# Altium footprint library ov_ftdi.PcbLib: 34 footprints (part 2 of 3)
Each footprint in its own frame and in the unit in brackets; x right, y up, seen from the top. Pads: shape width x height; smd on the part's side, far side on the other; paste and mask are expansions set on the pad; w line width, h text height; cw(c..) or ccw(c..) is an arc to the next point about the centre after c.
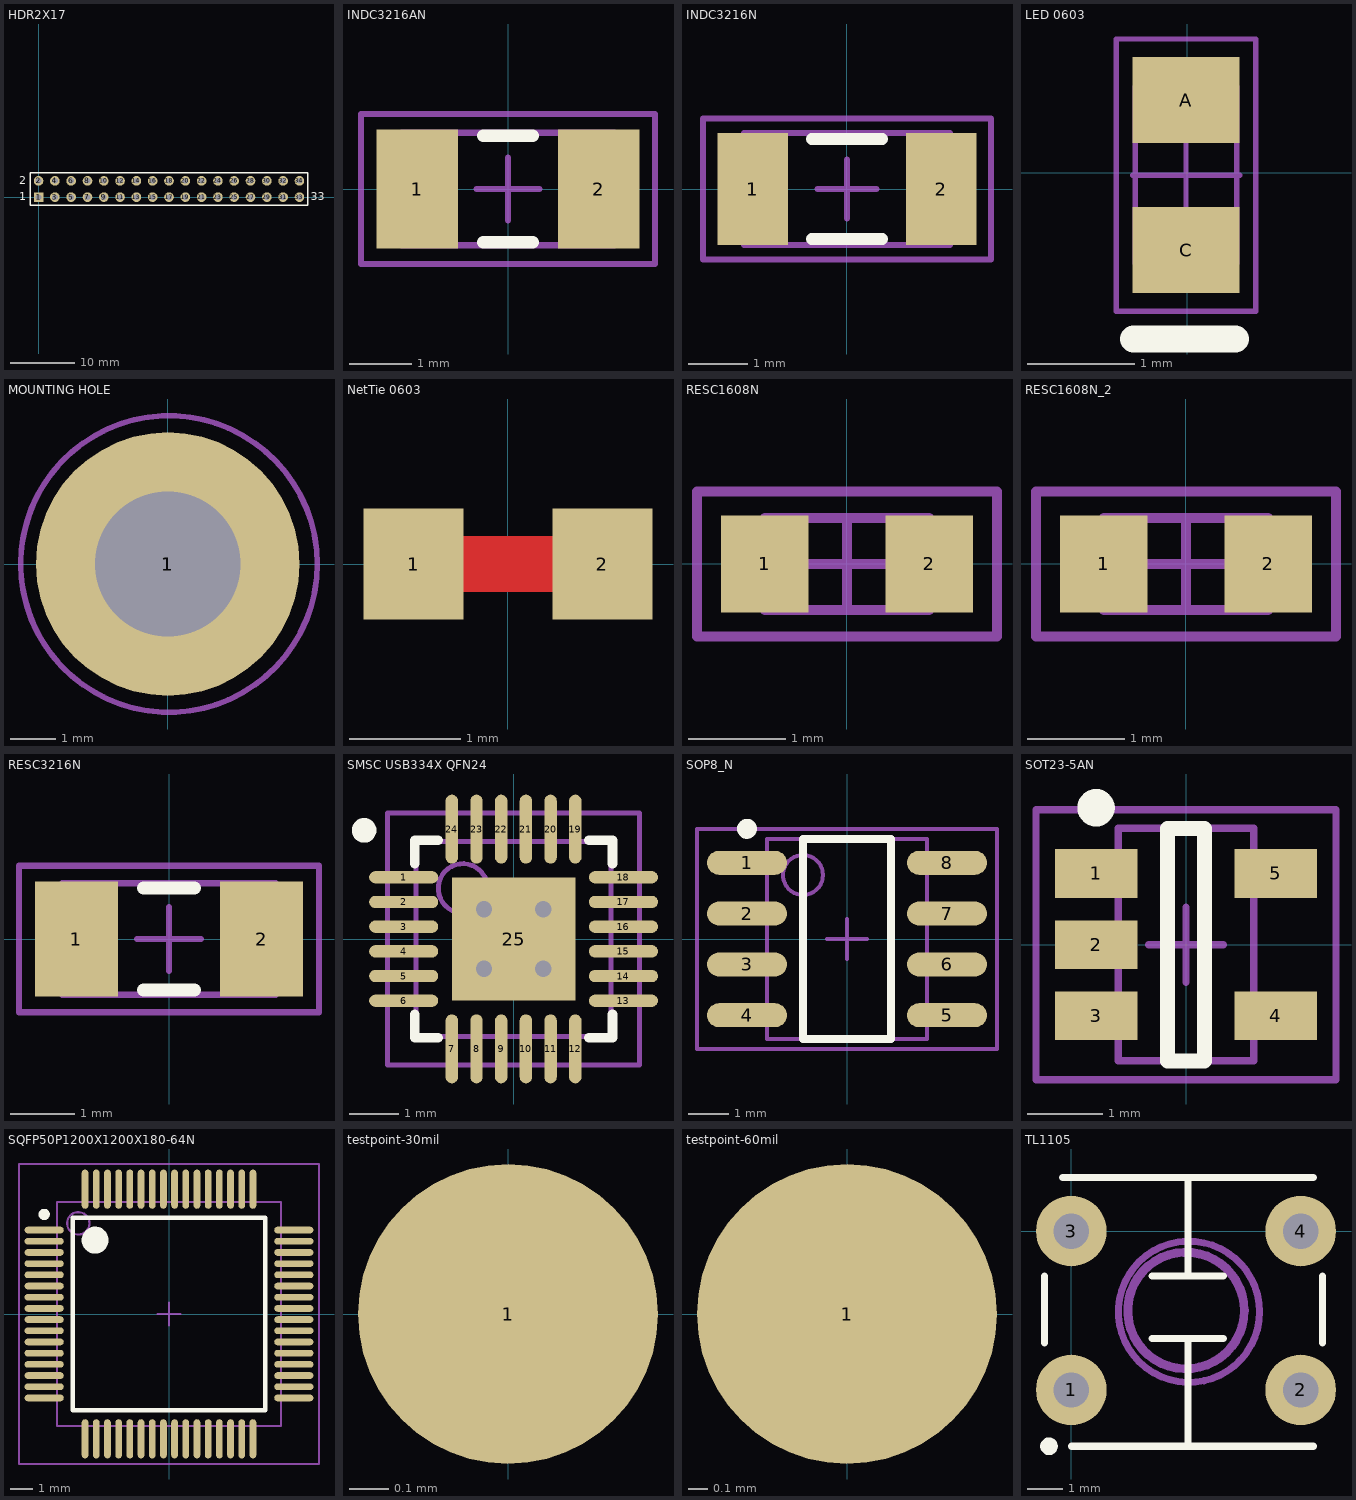
[diagram p1: the footprints below, top view; thin cyan lines are the x and y axes]

## HDR2X17 [mm]
pads (34):
  rect 1.5x1.5 hole 0.9: 1(0,0)
  round 1.5 hole 0.9: 2(0,2.54) 3(2.54,0) 4(2.54,2.54) 5(5.08,0) 6(5.08,2.54) 7(7.62,0) 8(7.62,2.54) 9(10.16,0) 10(10.16,2.54) 11(12.7,0) 12(12.7,2.54) 13(15.24,0) 14(15.24,2.54) 15(17.78,0) 16(17.78,2.54) 17(20.32,0) 18(20.32,2.54) 19(22.86,0) 20(22.86,2.54) 21(25.4,0) 22(25.4,2.54) 23(27.94,0) 24(27.94,2.54) 25(30.48,0) 26(30.48,2.54) 27(33.02,0) 28(33.02,2.54) 29(35.56,0) 30(35.56,2.54) 31(38.1,0) 32(38.1,2.54) 33(40.64,0) 34(40.64,2.54)
Top Overlay:
  lines w0.2: -1.27,-1.27 -1.27,3.81 41.91,3.81 41.91,-1.27 -1.27,-1.27
  text "2" at -3.048,2.032 h1.27
  text "1" at -3.048,-0.508 h1.27
  text "33" at 42.418,-0.508 h1.27

## INDC3216AN [mm]
pads (2):
  rect 1.3x1.9 smd: 1(-1.45,0) 2(1.45,0)
Top Overlay:
  lines w0.2: -0.4,-0.85 0.4,-0.85 ; -0.4,0.85 0.4,0.85
Mechanical 13:
  lines w0.1: -1.7,-0.9 1.7,-0.9 1.7,0.9 -1.7,0.9 -1.7,-0.9
Mechanical 15:
  lines w0.1: -0.5,0 0.5,0 ; 0,-0.5 0,0.5 ; -2.35,-1.2 2.35,-1.2 2.35,1.2 -2.35,1.2 -2.35,-1.2
3D body: height 1.3, standoff 0, extent -1.7,-0.9 1.7,0.9

## INDC3216N [mm]
pads (2):
  rect 1.2x1.9 smd: 1(-1.6,0) 2(1.6,0)
Top Overlay:
  lines w0.2: -0.6,-0.85 0.6,-0.85 ; -0.6,0.85 0.6,0.85
Mechanical 13:
  lines w0.1: -1.75,-0.95 -1.75,0.95 1.75,0.95 1.75,-0.95 -1.75,-0.95
Mechanical 15:
  lines w0.1: -0.5,0 0.5,0 ; 0,-0.5 0,0.5 ; -2.45,-1.2 -2.45,1.2 2.45,1.2 2.45,-1.2 -2.45,-1.2
3D body: height 1.9, standoff 0, extent -1.75,-0.95 1.75,0.95

## LED 0603 [mm]
pads (2):
  rect 1x0.8 smd: A(-0.01,0.68) C(-0.01,-0.72)
Top Overlay:
  lines w0.254: -0.5,-1.55 0.45,-1.55
Mechanical 11:
  lines w0.005: -0.485,-0.845 0.465,-0.845 0.465,0.805 -0.485,0.805 -0.485,-0.02 -0.485,-0.845
Mechanical 13:
  lines w0.05: -0.485,-0.845 -0.485,-0.02 -0.485,0.805 0.465,0.805 0.465,-0.845 -0.485,-0.845
Mechanical 15:
  lines w0.05: -0.51,-0.02 -0.01,-0.02 ; -0.01,-0.52 -0.01,-0.02 ; -0.01,0.48 -0.01,-0.02 ; 0.49,-0.02 -0.01,-0.02 ; -0.66,-1.29 -0.66,-0.02 -0.66,1.25 0.64,1.25 0.64,-1.29 -0.66,-1.29
3D body "LED-0603.stp": height 0.71, standoff -0.01, extent -0.391,-0.833 0.396,0.793
3D body: height 0.75, standoff 0, extent -0.38,-0.58 0.39,0.54

## MOUNTING HOLE [mm]
pads (2):
  round 5.8 hole 3.2: 1(0,0)
  round 3.2 on Mech2: 1(0,0)
Mechanical 5:
  circle w0.1: c0.025,0 r3.25
  lines w0.1: -1.975,-0.5 -1.975,0.5 -0.475,0.5 -0.475,2 0.525,2 0.525,0.5 2.025,0.5 2.025,-0.5 0.525,-0.5 0.525,-2 -0.475,-2 -0.475,-0.5 -1.975,-0.5
Mechanical 13:
  circle w0.1: c0.025,0 r3.25
  circle w0.1: c0.025,0 r1.6
Mechanical 14:
  circle w0.1: c0.025,0 r1.6
  circle w0.1: c0.025,0 r3.25
Mechanical 15:
  circle w0.05: c0.025,0 r3.3
  lines w0.05: -0.975,0 1.025,0 ; 0.025,-1 0.025,1
Mechanical 16:
  circle w0.05: c0.025,0 r3.3
3D body: height 0.02, standoff 0, extent -2.975,-2.994 3.001,2.994
3D body "SW3dPS-DIN 967.STEP": height 2.33, standoff -4, extent -3.8,-3.7 3.7,3.8
3D body: height 0.02, standoff 0, extent -2.975,-2.994 3.001,2.994

## NetTie 0603 [mm]
pads (2):
  rect 0.9x1 smd paste-2.54: 1(-0.85,0) 2(0.85,0)
Top Layer:
  lines w0.508: -0.85,0 0.85,0

## RESC1608N [mm]
pads (2):
  rect 0.9x1 smd: 1(-0.85,0) 2(0.85,0)
Mechanical 13:
  lines w0.1: -0.85,-0.475 -0.85,0.475 0.85,0.475 0.85,-0.475 -0.85,-0.475
Mechanical 15:
  lines w0.1: -0.475,0 0.475,0 ; 0,-0.475 0,0.475 ; -1.55,-0.75 -1.55,0.75 1.55,0.75 1.55,-0.75 -1.55,-0.75
3D body: height 0.6, standoff 0, extent -0.85,-0.475 0.85,0.475

## RESC1608N_2 [mm]
pads (2):
  rect 0.9x1 smd: 1(-0.85,0) 2(0.85,0)
Mechanical 13:
  lines w0.1: -0.85,-0.475 0.85,-0.475 0.85,0.475 -0.85,0.475 -0.85,-0.475
Mechanical 15:
  lines w0.1: -0.475,0 0.475,0 ; 0,-0.475 0,0.475 ; -1.55,-0.75 1.55,-0.75 1.55,0.75 -1.55,0.75 -1.55,-0.75
3D body: height 0.6, standoff 0, extent -0.85,-0.475 0.85,0.475

## RESC3216N [mm]
pads (2):
  rect 1.3x1.8 smd: 1(-1.45,0) 2(1.45,0)
Top Overlay:
  lines w0.2: -0.4,-0.8 0.4,-0.8 ; -0.4,0.8 0.4,0.8
Mechanical 13:
  lines w0.1: -1.675,-0.875 1.675,-0.875 1.675,0.875 -1.675,0.875 -1.675,-0.875
Mechanical 15:
  lines w0.1: -0.5,0 0.5,0 ; 0,-0.5 0,0.5 ; -2.35,-1.15 2.35,-1.15 2.35,1.15 -2.35,1.15 -2.35,-1.15
3D body: height 0.71, standoff 0, extent -1.675,-0.875 1.675,0.875

## SMSC USB334X QFN24 [mm]
pads (25):
  oval 1.4x0.25 smd mask+0.07: 1(-2.225,1.25) 2(-2.225,0.75) 3(-2.225,0.25) 4(-2.225,-0.25) 5(-2.225,-0.75) 6(-2.225,-1.25) 13(2.225,-1.25) 14(2.225,-0.75) 15(2.225,-0.25) 16(2.225,0.25) 17(2.225,0.75) 18(2.225,1.25)
  oval 0.25x1.4 smd mask+0.07: 7(-1.25,-2.225) 8(-0.75,-2.225) 9(-0.25,-2.225) 10(0.25,-2.225) 11(0.75,-2.225) 12(1.25,-2.225) 19(1.25,2.225) 20(0.75,2.225) 21(0.25,2.225) 22(-0.25,2.225) 23(-0.75,2.225) 24(-1.25,2.225)
  rect 2.5x2.5 smd mask+0.07: 25(0,0)
via -0.6,0.6 diameter 0.762 hole 0.33
via 0.6,-0.6 diameter 0.762 hole 0.33
via 0.6,0.6 diameter 0.762 hole 0.33
via -0.6,-0.6 diameter 0.762 hole 0.33
Top Overlay:
  circle w0.25: c-3.025,2.2 r0.125
  lines w0.2: -2,-1.525 -2,-2 -1.525,-2 ; -2,1.525 -2,2 -1.525,2 ; 1.525,-2 2,-2 2,-1.525 ; 1.525,2 2,2 2,1.525
Mechanical 13:
  circle w0.1: c-1.025,1.025 r0.5
  lines w0.1: -1.975,-1.975 -1.975,1.975 1.975,1.975 1.975,-1.975 -1.975,-1.975
Mechanical 15:
  lines w0.1: -0.5,0 0.5,0 ; 0,-0.5 0,0.5 ; -2.55,-2.55 -2.55,2.55 2.55,2.55 2.55,-2.55 -2.55,-2.55
3D body: height 1, standoff 0, extent -1.975,-1.975 1.975,1.975

## SOP8_N [mm]
pads (8):
  oval 2x0.6 smd: 1(-2.5,1.905) 2(-2.5,0.635) 3(-2.5,-0.635) 4(-2.5,-1.905) 5(2.5,-1.905) 6(2.5,-0.635) 7(2.5,0.635) 8(2.5,1.905)
Top Overlay:
  circle w0.25: c-2.5,2.755 r0.125
  lines w0.2: -1.1,-2.5 1.1,-2.5 1.1,2.5 -1.1,2.5 -1.1,-2.5
Mechanical 13:
  circle w0.1: c-1.1,1.6 r0.5
  lines w0.1: -2,-2.5 2,-2.5 2,2.5 -2,2.5 -2,-2.5
Mechanical 15:
  lines w0.1: -0.5,0 0.5,0 ; 0,-0.5 0,0.5 ; -3.75,-2.75 3.75,-2.75 3.75,2.75 -3.75,2.75 -3.75,-2.75
3D body: height 1.75, standoff 0, extent -2,-2.5 2,2.5

## SOT23-5AN [mm]
pads (5):
  rect 1.1x0.65 smd: 1(-1.2,0.95) 2(-1.2,0) 3(-1.2,-0.95) 4(1.2,-0.95) 5(1.2,0.95)
Top Overlay:
  circle w0.25: c-1.2,1.825 r0.125
  lines w0.2: -0.25,-1.55 -0.25,1.55 0.25,1.55 0.25,-1.55 -0.25,-1.55
Mechanical 13:
  lines w0.1: -0.9,-1.55 0.9,-1.55 0.9,1.55 -0.9,1.55 -0.9,-1.55
Mechanical 15:
  lines w0.1: -0.5,0 0.5,0 ; 0,-0.5 0,0.5 ; -2,-1.8 2,-1.8 2,1.8 -2,1.8 -2,-1.8
3D body: height 1.45, standoff 0, extent -0.9,-1.55 0.9,1.55

## SQFP50P1200X1200X180-64N [mm]
pads (64):
  oval 1.75x0.3 smd: 1(-5.575,3.75) 2(-5.575,3.25) 3(-5.575,2.75) 4(-5.575,2.25) 5(-5.575,1.75) 6(-5.575,1.25) 7(-5.575,0.75) 8(-5.575,0.25) 9(-5.575,-0.25) 10(-5.575,-0.75) 11(-5.575,-1.25) 12(-5.575,-1.75) 13(-5.575,-2.25) 14(-5.575,-2.75) 15(-5.575,-3.25) 16(-5.575,-3.75) 33(5.575,-3.75) 34(5.575,-3.25) 35(5.575,-2.75) 36(5.575,-2.25) 37(5.575,-1.75) 38(5.575,-1.25) 39(5.575,-0.75) 40(5.575,-0.25) 41(5.575,0.25) 42(5.575,0.75) 43(5.575,1.25) 44(5.575,1.75) 45(5.575,2.25) 46(5.575,2.75) 47(5.575,3.25) 48(5.575,3.75)
  oval 0.3x1.75 smd: 17(-3.75,-5.575) 18(-3.25,-5.575) 19(-2.75,-5.575) 20(-2.25,-5.575) 21(-1.75,-5.575) 22(-1.25,-5.575) 23(-0.75,-5.575) 24(-0.25,-5.575) 25(0.25,-5.575) 26(0.75,-5.575) 27(1.25,-5.575) 28(1.75,-5.575) 29(2.25,-5.575) 30(2.75,-5.575) 31(3.25,-5.575) 32(3.75,-5.575) 49(3.75,5.575) 50(3.25,5.575) 51(2.75,5.575) 52(2.25,5.575) 53(1.75,5.575) 54(1.25,5.575) 55(0.75,5.575) 56(0.25,5.575) 57(-0.25,5.575) 58(-0.75,5.575) 59(-1.25,5.575) 60(-1.75,5.575) 61(-2.25,5.575) 62(-2.75,5.575) 63(-3.25,5.575) 64(-3.75,5.575)
Top Overlay:
  circle w0.25: c-5.575,4.45 r0.125
  circle w0.6: c-3.3,3.3 r0.3
  lines w0.2: -4.3,-4.3 -4.3,4.3 4.3,4.3 4.3,-4.3 -4.3,-4.3
Mechanical 13:
  circle w0.1: c-4.05,4.05 r0.5
  lines w0.1: -5,-5 -5,5 5,5 5,-5 -5,-5
Mechanical 15:
  lines w0.1: -0.5,0 0.5,0 ; 0,-0.5 0,0.5 ; -6.7,-6.7 -6.7,6.7 6.7,6.7 6.7,-6.7 -6.7,-6.7
3D body: height 1.8, standoff 0.25, extent -5,-5 5,5

## testpoint-30mil [mil] "30mil testpoint"
pads (1):
  round 30 smd paste-3897.64: 1(0,0)
Mechanical 15:
  text ".Designator" at 16.14,23.23 h65

## testpoint-60mil [mil] "30mil testpoint"
pads (1):
  round 60 smd paste-3897.64: 1(0,0)
Mechanical 15:
  text ".Designator" at 16.14,23.23 h65

## TL1105 [mm]
pads (4):
  round 2 hole 1: 1(0,-4.5) 2(6.5,-4.5) 3(0,0) 4(6.5,0)
Top Overlay:
  circle w0.25: c-0.633,-6.096 r0.125
  lines w0.2: -0.762,-3.17 -0.762,-1.27 ; -0.254,1.524 6.858,1.524 ; 0,-6.096 6.858,-6.096 ; 2.286,-3.048 4.318,-3.048 ; 2.286,-1.27 4.318,-1.27 ; 3.302,-6.03 3.302,-3.048 ; 3.302,-1.27 3.302,1.458 ; 7.112,-3.17 7.112,-1.27
Mechanical 1:
  circle w0.2: c3.334,-2.286 r2
Mechanical 2:
  circle w0.254: c3.25,-2.25 r1.651